# Altium schematic symbol library LMK107B7105K.SchLib: 1 symbol
Pins are listed as number, name and electrical type; pins without a type are passive.

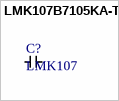
[diagram p0: symbol LMK107B7105KA-T]

## LMK107B7105KA-T
designator C?, comment LMK107
footprint CAPC1608X95N
pins: 1, 2